# EAGLE library part 621X3221921 (library Wurth_Elektronik_Electromechanic_Board_to_Board_Connectors_rev16a)
WR-PHD 2.00mm Dual SMT Pin Header, 32 Pins=>Code :WR-PHD_SMD_2,00mm_zweireihig621x3221921(packageing:x = 0: Tube x = 3: Tape & Reel with Cap) <http://katalog.we-online.de/media/images/eican/WR-PHD_SMD_2,00mm_zweireihig62103221921.jpg> 6210xx21921 Details see: http://katalog.we-online.de/en/em/621_0xx_219_21 6213xx21921 Details see: http://katalog.we-online.de/en/em/PHD_2_00_SMT_DUAL_PIN_HEADER_REEL_6213XX21921 2014 (C) Würth Elektronik
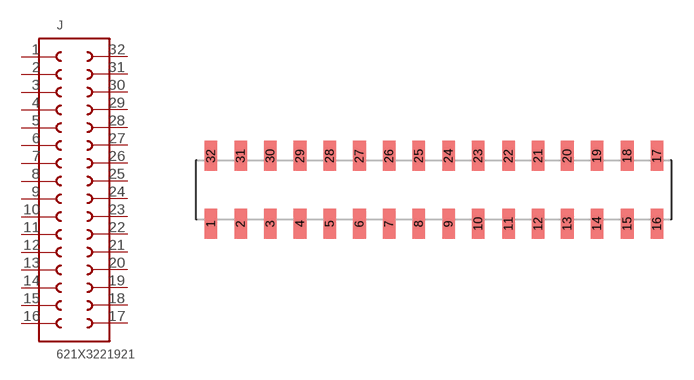
[diagram p249: symbol with the pads of 621X3221921; footprint 621X3221921]

Designator prefix J

## 621X3221921  [621X3221921]
1  1  pas
2  2  pas
3  3  pas
4  4  pas
5  5  pas
6  6  pas
7  7  pas
8  8  pas
9  9  pas
10  10  pas
11  11  pas
12  12  pas
13  13  pas
14  14  pas
15  15  pas
16  16  pas
17  17  pas
18  18  pas
19  19  pas
20  20  pas
21  21  pas
22  22  pas
23  23  pas
24  24  pas
25  25  pas
26  26  pas
27  27  pas
28  28  pas
29  29  pas
30  30  pas
31  31  pas
32  32  pas

## Footprint 621X3221921 (pad centres in mm)
WR-PHD 2.00mm Dual SMT Pin Header, 32 Pins
smd 0.85 x 2.03: 1 -16.62,-2.285; 2 -14.62,-2.285; 3 -12.62,-2.285; 4 -10.62,-2.285; 5 -8.62,-2.285; 6 -6.62,-2.285; 7 -4.62,-2.285; 8 -2.62,-2.285; 9 -0.62,-2.285; 10 1.38,-2.285; 11 3.42,-2.285; 12 5.42,-2.285; 13 7.38,-2.285; 14 9.38,-2.285; 15 11.42,-2.285; 16 13.42,-2.285; 17 13.42,2.285; 18 11.42,2.285; 19 9.38,2.285; 20 7.38,2.285; 21 5.42,2.285; 22 3.42,2.285; 23 1.38,2.285; 24 -0.62,2.285; 25 -2.62,2.285; 26 -4.62,2.285; 27 -6.62,2.285; 28 -8.62,2.285; 29 -10.62,2.285; 30 -12.62,2.285; 31 -14.62,2.285; 32 -16.62,2.285